# EAGLE library part ATF150X100 (library atmel-cpld)
ATF150x in 100 pin package.
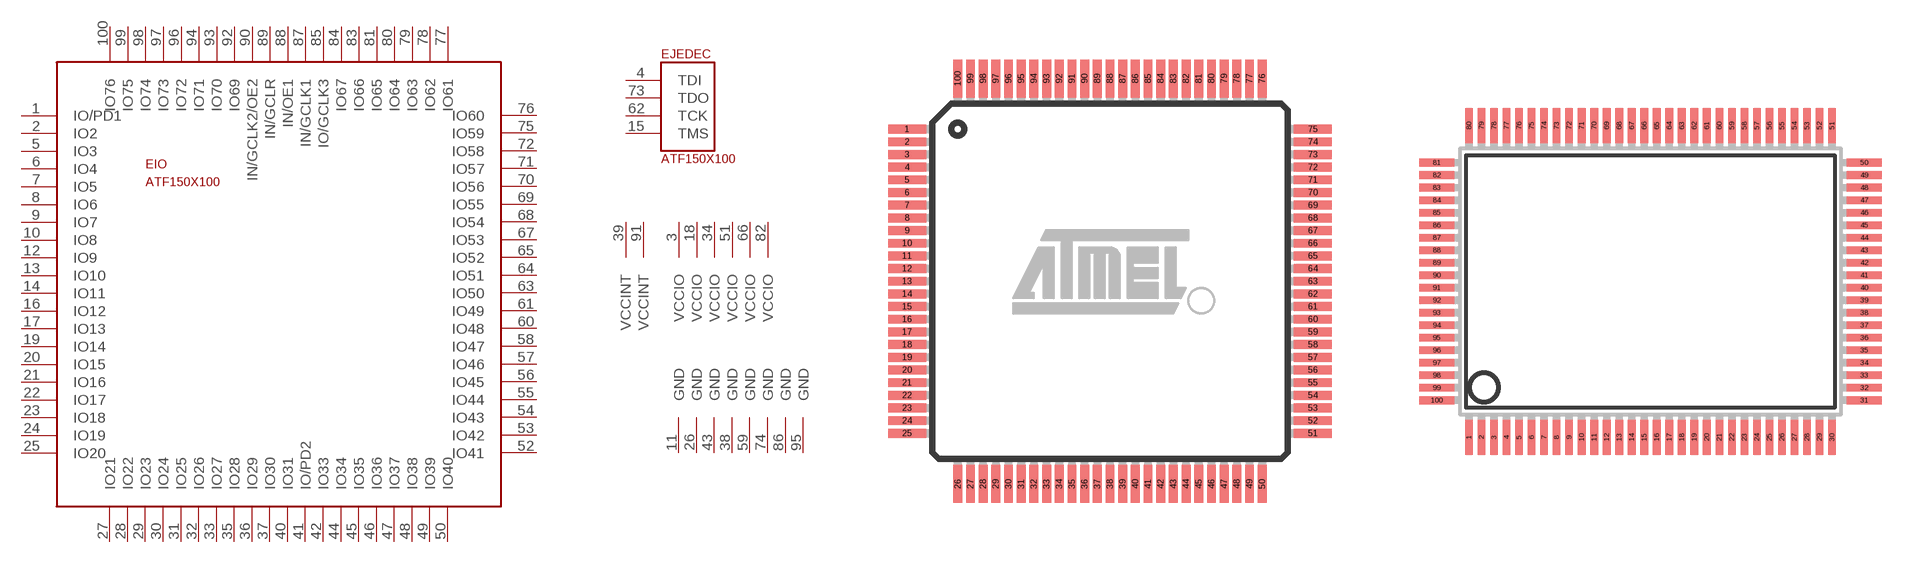
[diagram p1: symbol with the pads of TQFP-100; footprints TQFP-100, PQFP-100]

Designator prefix E; gates JEDEC=JTAG G$3=PVCCINT G$4=PVCCINT G$5=PVCCIO G$6=PVCCIO G$7=PVCCIO G$8=PVCCIO G$9=PVCCIO G$10=PGND G$11=PGND G$12=PGND G$13=PGND G$14=PGND G$1=PVCCIO IO=AT1508-100 G$15=PGND G$16=PGND G$17=PGND

## ATF150X100TQFP  [TQFP-100]
1  IO:IO/PD1
2  IO:IO2
3  G$5:VCCIO  pwr
4  JEDEC:TDI
5  IO:IO3
6  IO:IO4
7  IO:IO5
8  IO:IO6
9  IO:IO7
10  IO:IO8
11  G$10:GND  pwr
12  IO:IO9
13  IO:IO10
14  IO:IO11
15  JEDEC:TMS
16  IO:IO12
17  IO:IO13
18  G$6:VCCIO  pwr
19  IO:IO14
20  IO:IO15
21  IO:IO16
22  IO:IO17
23  IO:IO18
24  IO:IO19
25  IO:IO20
26  G$11:GND  pwr
27  IO:IO21
28  IO:IO22
29  IO:IO23
30  IO:IO24
31  IO:IO25
32  IO:IO26
33  IO:IO27
34  G$7:VCCIO  pwr
35  IO:IO28
36  IO:IO29
37  IO:IO30
38  G$12:GND  pwr
39  G$3:VCCINT  pwr
40  IO:IO31
41  IO:IO/PD2
42  IO:IO33
43  G$13:GND  pwr
44  IO:IO34
45  IO:IO35
46  IO:IO36
47  IO:IO37
48  IO:IO38
49  IO:IO39
50  IO:IO40
51  G$8:VCCIO  pwr
52  IO:IO41
53  IO:IO42
54  IO:IO43
55  IO:IO44
56  IO:IO45
57  IO:IO46
58  IO:IO47
59  G$14:GND  pwr
60  IO:IO48
61  IO:IO49
62  JEDEC:TCK
63  IO:IO50
64  IO:IO51
65  IO:IO52
66  G$9:VCCIO  pwr
67  IO:IO53
68  IO:IO54
69  IO:IO55
70  IO:IO56
71  IO:IO57
72  IO:IO58
73  JEDEC:TDO
74  G$15:GND  pwr
75  IO:IO59
76  IO:IO60
77  IO:IO61
78  IO:IO62
79  IO:IO63
80  IO:IO64
81  IO:IO65
82  G$1:VCCIO  pwr
83  IO:IO66
84  IO:IO67
85  IO:IO/GCLK3
86  G$16:GND  pwr
87  IO:IN/GCLK1  in
88  IO:IN/OE1  in
89  IO:IN/GCLR  in
90  IO:IN/GCLK2/OE2  in
91  G$4:VCCINT  pwr
92  IO:IO69
93  IO:IO70
94  IO:IO71
95  G$17:GND  pwr
96  IO:IO72
97  IO:IO73
98  IO:IO74
99  IO:IO75
100  IO:IO76

## ATF150X100PQFP  [PQFP-100]
1  IO:IO75
2  IO:IO76
3  IO:IO/PD1
4  IO:IO2
5  G$1:VCCIO  pwr
6  JEDEC:TDI
7  IO:IO3
8  IO:IO4
9  IO:IO5
10  IO:IO6
11  IO:IO7
12  IO:IO8
13  G$10:GND  pwr
14  IO:IO9
15  IO:IO10
16  IO:IO11
17  JEDEC:TMS
18  IO:IO12
19  IO:IO13
20  G$5:VCCIO  pwr
21  IO:IO14
22  IO:IO15
23  IO:IO16
24  IO:IO17
25  IO:IO18
26  IO:IO19
27  IO:IO20
28  G$11:GND  pwr
29  IO:IO21
30  IO:IO22
31  IO:IO23
32  IO:IO24
33  IO:IO25
34  IO:IO26
35  IO:IO27
36  G$6:VCCIO  pwr
37  IO:IO28
38  IO:IO29
39  IO:IO30
40  G$12:GND  pwr
41  G$3:VCCINT  pwr
42  IO:IO31
43  IO:IO/PD2
44  IO:IO33
45  G$13:GND  pwr
46  IO:IO34
47  IO:IO35
48  IO:IO36
49  IO:IO37
50  IO:IO38
51  IO:IO39
52  IO:IO40
53  G$7:VCCIO  pwr
54  IO:IO41
55  IO:IO42
56  IO:IO43
57  IO:IO44
58  IO:IO45
59  IO:IO46
60  IO:IO47
61  G$14:GND  pwr
62  IO:IO48
63  IO:IO49
64  JEDEC:TCK
65  IO:IO50
66  IO:IO51
67  IO:IO52
68  G$8:VCCIO  pwr
69  IO:IO53
70  IO:IO54
71  IO:IO55
72  IO:IO56
73  IO:IO57
74  IO:IO58
75  JEDEC:TDO
76  G$15:GND  pwr
77  IO:IO59
78  IO:IO60
79  IO:IO61
80  IO:IO62
81  IO:IO63
82  IO:IO64
83  IO:IO65
84  G$9:VCCIO  pwr
85  IO:IO66
86  IO:IO67
87  IO:IO/GCLK3
88  G$16:GND  pwr
89  IO:IN/GCLK1  in
90  IO:IN/OE1  in
91  IO:IN/GCLR  in
92  IO:IN/GCLK2/OE2  in
93  G$4:VCCINT  pwr
94  IO:IO69
95  IO:IO70
96  IO:IO71
97  G$17:GND  pwr
98  IO:IO72
99  IO:IO73
100  IO:IO74

## ATF150X100TH  [TH-100]
Pads as for PQFP-100

## ATF150X100X  [TH100B]
1  IO:IO75
2  IO:IO76
3  IO:IO/PD1
4  IO:IO2
5  G$1:VCCIO  pwr
6  JEDEC:TDI
7  IO:IO3
8  IO:IO4
9  IO:IO5
10  IO:IO6
11  IO:IO7
12  IO:IO8
13  G$10:GND  pwr
14  IO:IO9
15  IO:IO10
16  IO:IO11
17  JEDEC:TMS
18  IO:IO12
19  IO:IO13
20  G$5:VCCIO  pwr
21  IO:IO14
22  IO:IO15
23  IO:IO16
24  IO:IO17
25  IO:IO18
26  IO:IO19
27  IO:IO20
28  G$11:GND  pwr
29  IO:IO21
30  IO:IO22
31  IO:IO23
32  IO:IO24
33  IO:IO25
34  IO:IO26
35  IO:IO27
36  G$6:VCCIO  pwr
37  IO:IO28
38  IO:IO29
39  IO:IO30
40  G$12:GND  pwr
41  G$3:VCCINT  pwr
42  IO:IO31
43  IO:IO/PD2
44  IO:IO33
45  G$13:GND  pwr
46  IO:IO34
47  IO:IO35
48  IO:IO36
49  IO:IO37
50  IO:IO38
51  IO:IO39
52  IO:IO40
53  G$7:VCCIO  pwr
54  IO:IO41
55  IO:IO42
56  IO:IO43
57  IO:IO44
58  IO:IO45
59  IO:IO46
60  IO:IO47
61  G$14:GND  pwr
62  IO:IO48
63  IO:IO49
64  JEDEC:TCK
65  IO:IO50
66  IO:IO51
67  IO:IO52
68  G$8:VCCIO  pwr
69  IO:IO53
70  IO:IO54
71  IO:IO55
72  IO:IO56
73  IO:IO57
74  IO:IO58
75  JEDEC:TDO
76  G$15:GND  pwr
77  IO:IO59
78  IO:IO60
79  IO:IO61
80  IO:IO62
81  IO:IO63
82  IO:IO64
83  IO:IO65
84  G$9:VCCIO  pwr
85  IO:IO66
86  IO:IO67
87  IO:IO/GCLK3
88  G$16:GND  pwr
89  IO:IN/GCLK1  in
90  IO:IN/OE1  in
91  IO:IN/GCLR  in
92  IO:IN/GCLK2/OE2  in
93  G$4:VCCINT  pwr
94  IO:IO69
95  IO:IO70
96  IO:IO71
97  G$17:GND  pwr
98  IO:IO72
99  IO:IO73
100  IO:IO74
P$23  G$3:VCCINT  pwr
P$24  G$13:GND  pwr
P$25  G$4:VCCINT  pwr
P$26  G$17:GND  pwr
P$27  G$5:VCCIO  pwr
P$28  G$10:GND  pwr
P$29  G$8:VCCIO  pwr
P$30  G$14:GND  pwr
VCCIO@1  G$7:VCCIO  pwr
VCCIO@2  G$6:VCCIO  pwr

## Footprint TQFP-100 (pad centres in mm)
100-lead Thin Quad Flat Pack Package Outline
smd 1.5 x 0.35: 1 -8,6; 2 -8,5.5; 3 -8,5; 4 -8,4.5; 5 -8,4; 6 -8,3.5; 7 -8,3; 8 -8,2.5; 9 -8,2; 10 -8,1.5; 11 -8,1; 12 -8,0.5; 13 -8,0; 14 -8,-0.5; 15 -8,-1; 16 -8,-1.5; 17 -8,-2; 18 -8,-2.5; 19 -8,-3; 20 -8,-3.5; 21 -8,-4; 22 -8,-4.5; 23 -8,-5; 24 -8,-5.5; 25 -8,-6; 51 8,-6; 52 8,-5.5; 53 8,-5; 54 8,-4.5; 55 8,-4; 56 8,-3.5; 57 8,-3; 58 8,-2.5; 59 8,-2; 60 8,-1.5; 61 8,-1; 62 8,-0.5; 63 8,0; 64 8,0.5; 65 8,1; 66 8,1.5; 67 8,2; 68 8,2.5; 69 8,3; 70 8,3.5; 71 8,4; 72 8,4.5; 73 8,5; 74 8,5.5; 75 8,6
smd 0.35 x 1.5: 26 -6,-8; 27 -5.5,-8; 28 -5,-8; 29 -4.5,-8; 30 -4,-8; 31 -3.5,-8; 32 -3,-8; 33 -2.5,-8; 34 -2,-8; 35 -1.5,-8; 36 -1,-8; 37 -0.5,-8; 38 0,-8; 39 0.5,-8; 40 1,-8; 41 1.5,-8; 42 2,-8; 43 2.5,-8; 44 3,-8; 45 3.5,-8; 46 4,-8; 47 4.5,-8; 48 5,-8; 49 5.5,-8; 50 6,-8; 76 6,8; 77 5.5,8; 78 5,8; 79 4.5,8; 80 4,8; 81 3.5,8; 82 3,8; 83 2.5,8; 84 2,8; 85 1.5,8; 86 1,8; 87 0.5,8; 88 0,8; 89 -0.5,8; 90 -1,8; 91 -1.5,8; 92 -2,8; 93 -2.5,8; 94 -3,8; 95 -3.5,8; 96 -4,8; 97 -4.5,8; 98 -5,8; 99 -5.5,8; 100 -6,8

## Footprint PQFP-100 (pad centres in mm)
PQFP100 Quad flat pack 14mm x 20mm
smd 0.4 x 1.8: 1 -9.425,-8.1; 2 -8.775,-8.1; 3 -8.125,-8.1; 4 -7.475,-8.1; 5 -6.825,-8.1; 6 -6.175,-8.1; 7 -5.525,-8.1; 8 -4.875,-8.1; 9 -4.225,-8.1; 10 -3.575,-8.1; 11 -2.925,-8.1; 12 -2.275,-8.1; 13 -1.625,-8.1; 14 -0.975,-8.1; 15 -0.325,-8.1; 16 0.325,-8.1; 17 0.975,-8.1; 18 1.625,-8.1; 19 2.275,-8.1; 20 2.925,-8.1; 21 3.575,-8.1; 22 4.225,-8.1; 23 4.875,-8.1; 24 5.525,-8.1; 25 6.175,-8.1; 26 6.825,-8.1; 27 7.475,-8.1; 28 8.125,-8.1; 29 8.775,-8.1; 30 9.425,-8.1; 51 9.425,8.1; 52 8.775,8.1; 53 8.125,8.1; 54 7.475,8.1; 55 6.825,8.1; 56 6.175,8.1; 57 5.525,8.1; 58 4.875,8.1; 59 4.225,8.1; 60 3.575,8.1; 61 2.925,8.1; 62 2.275,8.1; 63 1.625,8.1; 64 0.975,8.1; 65 0.325,8.1; 66 -0.325,8.1; 67 -0.975,8.1; 68 -1.625,8.1; 69 -2.275,8.1; 70 -2.925,8.1; 71 -3.575,8.1; 72 -4.225,8.1; 73 -4.875,8.1; 74 -5.525,8.1; 75 -6.175,8.1; 76 -6.825,8.1; 77 -7.475,8.1; 78 -8.125,8.1; 79 -8.775,8.1; 80 -9.425,8.1
smd 1.8 x 0.4: 31 11.1,-6.175; 32 11.1,-5.525; 33 11.1,-4.875; 34 11.1,-4.225; 35 11.1,-3.575; 36 11.1,-2.925; 37 11.1,-2.275; 38 11.1,-1.625; 39 11.1,-0.975; 40 11.1,-0.325; 41 11.1,0.325; 42 11.1,0.975; 43 11.1,1.625; 44 11.1,2.275; 45 11.1,2.925; 46 11.1,3.575; 47 11.1,4.225; 48 11.1,4.875; 49 11.1,5.525; 50 11.1,6.175; 81 -11.1,6.175; 82 -11.1,5.525; 83 -11.1,4.875; 84 -11.1,4.225; 85 -11.1,3.575; 86 -11.1,2.925; 87 -11.1,2.275; 88 -11.1,1.625; 89 -11.1,0.975; 90 -11.1,0.325; 91 -11.1,-0.325; 92 -11.1,-0.975; 93 -11.1,-1.625; 94 -11.1,-2.275; 95 -11.1,-2.925; 96 -11.1,-3.575; 97 -11.1,-4.225; 98 -11.1,-4.875; 99 -11.1,-5.525; 100 -11.1,-6.175

## Footprint TH-100 (pad centres in mm)
Through-hole adapter mounted pqfp-100 part.
drill 0.9 octagon: 1 -17.78,-20.32; 2 -17.78,-22.86; 3 -15.24,-20.32; 4 -15.24,-22.86; 5 -12.7,-20.32; 6 -12.7,-22.86; 7 -10.16,-20.32; 8 -10.16,-22.86; 9 -7.62,-20.32; 10 -7.62,-22.86; 11 -5.08,-20.32; 12 -5.08,-22.86; 13 -2.54,-20.32; 14 -2.54,-22.86; 15 0,-20.32; 16 0,-22.86; 17 2.54,-20.32; 18 2.54,-22.86; 19 5.08,-20.32; 20 5.08,-22.86; 21 7.62,-20.32; 22 7.62,-22.86; 23 10.16,-20.32; 24 10.16,-22.86; 25 12.7,-20.32; 26 12.7,-22.86; 27 15.24,-20.32; 28 15.24,-22.86; 29 17.78,-20.32; 30 17.78,-22.86; 31 22.86,-10.16; 32 20.32,-10.16; 33 22.86,-7.62; 34 20.32,-7.62; 35 22.86,-5.08; 36 20.32,-5.08; 37 22.86,-2.54; 38 20.32,-2.54; 39 22.86,0; 40 20.32,0; 41 22.86,2.54; 42 20.32,2.54; 43 22.86,5.08; 44 20.32,5.08; 45 22.86,7.62; 46 20.32,7.62; 47 22.86,10.16; 48 20.32,10.16; 49 22.86,12.7; 50 20.32,12.7; 51 17.78,22.86; 52 17.78,20.32; 53 15.24,22.86; 54 15.24,20.32; 55 12.7,22.86; 56 12.7,20.32; 57 10.16,22.86; 58 10.16,20.32; 59 7.62,22.86; 60 7.62,20.32; 61 5.08,22.86; 62 5.08,20.32; 63 2.54,22.86; 64 2.54,20.32; 65 0,22.86; 66 0,20.32; 67 -2.54,22.86; 68 -2.54,20.32; 69 -5.08,22.86; 70 -5.08,20.32; 71 -7.62,22.86; 72 -7.62,20.32; 73 -10.16,22.86; 74 -10.16,20.32; 75 -12.7,22.86; 76 -12.7,20.32; 77 -15.24,22.86; 78 -15.24,20.32; 79 -17.78,22.86; 80 -17.78,20.32; 81 -20.32,12.7; 82 -22.86,12.7; 83 -20.32,10.16; 84 -22.86,10.16; 85 -20.32,7.62; 86 -22.86,7.62; 87 -20.32,5.08; 88 -22.86,5.08; 89 -20.32,2.54; 90 -22.86,2.54; 91 -20.32,0; 92 -22.86,0; 93 -20.32,-2.54; 94 -22.86,-2.54; 95 -20.32,-5.08; 96 -22.86,-5.08; 97 -20.32,-7.62; 98 -22.86,-7.62; 99 -20.32,-10.16; 100 -22.86,-10.16; P$1 -22.86,15.24; P$2 -20.32,15.24; P$3 -20.32,17.78; P$4 -22.86,17.78; P$5 -20.32,20.32; P$6 -22.86,20.32; P$7 -22.86,22.86; P$8 -20.32,22.86; P$9 20.32,15.24; P$10 22.86,15.24; P$11 20.32,17.78; P$12 22.86,17.78; P$13 20.32,20.32; P$14 22.86,20.32; P$15 20.32,22.86; P$16 22.86,22.86; P$17 20.32,-17.78; P$18 22.86,-17.78; P$19 20.32,-15.24; P$20 22.86,-15.24; P$21 20.32,-12.7; P$22 22.86,-12.7; P$31 20.32,-22.86; P$32 22.86,-22.86; P$33 22.86,-20.32; P$34 20.32,-20.32; P$35 -20.32,-22.86; P$36 -20.32,-20.32; P$37 -22.86,-20.32; P$38 -22.86,-22.86; P$39 -22.86,-17.78; P$40 -20.32,-17.78; P$41 -22.86,-15.24; P$42 -20.32,-15.24; P$43 -22.86,-12.7; P$44 -20.32,-12.7

## Footprint TH100B (pad centres in mm)
Experimental 100 pin PQFP "pachage".
drill 0.9 octagon: 1 -17.78,-20.32; 2 -17.78,-22.86; 3 -15.24,-20.32; 4 -15.24,-22.86; 5 -12.7,-20.32; 6 -12.7,-22.86; 7 -10.16,-20.32; 8 -10.16,-22.86; 9 -7.62,-20.32; 10 -7.62,-22.86; 11 -5.08,-20.32; 12 -5.08,-22.86; 13 -2.54,-20.32; 14 -2.54,-22.86; 15 0,-20.32; 16 0,-22.86; 17 2.54,-20.32; 18 2.54,-22.86; 19 5.08,-20.32; 20 5.08,-22.86; 21 7.62,-20.32; 22 7.62,-22.86; 23 10.16,-20.32; 24 10.16,-22.86; 25 12.7,-20.32; 26 12.7,-22.86; 27 15.24,-20.32; 28 15.24,-22.86; 29 17.78,-20.32; 30 17.78,-22.86; 31 22.86,-10.16; 32 20.32,-10.16; 33 22.86,-7.62; 34 20.32,-7.62; 35 22.86,-5.08; 36 20.32,-5.08; 37 22.86,-2.54; 38 20.32,-2.54; 39 22.86,0; 40 20.32,0; 41 22.86,2.54; 42 20.32,2.54; 43 22.86,5.08; 44 20.32,5.08; 45 22.86,7.62; 46 20.32,7.62; 47 22.86,10.16; 48 20.32,10.16; 49 22.86,12.7; 50 20.32,12.7; 51 17.78,22.86; 52 17.78,20.32; 53 15.24,22.86; 54 15.24,20.32; 55 12.7,22.86; 56 12.7,20.32; 57 10.16,22.86; 58 10.16,20.32; 59 7.62,22.86; 60 7.62,20.32; 61 5.08,22.86; 62 5.08,20.32; 63 2.54,22.86; 64 2.54,20.32; 65 0,22.86; 66 0,20.32; 67 -2.54,22.86; 68 -2.54,20.32; 69 -5.08,22.86; 70 -5.08,20.32; 71 -7.62,22.86; 72 -7.62,20.32; 73 -10.16,22.86; 74 -10.16,20.32; 75 -12.7,22.86; 76 -12.7,20.32; 77 -15.24,22.86; 78 -15.24,20.32; 79 -17.78,22.86; 80 -17.78,20.32; 81 -20.32,12.7; 82 -22.86,12.7; 83 -20.32,10.16; 84 -22.86,10.16; 85 -20.32,7.62; 86 -22.86,7.62; 87 -20.32,5.08; 88 -22.86,5.08; 89 -20.32,2.54; 90 -22.86,2.54; 91 -20.32,0; 92 -22.86,0; 93 -20.32,-2.54; 94 -22.86,-2.54; 95 -20.32,-5.08; 96 -22.86,-5.08; 97 -20.32,-7.62; 98 -22.86,-7.62; 99 -20.32,-10.16; 100 -22.86,-10.16; P$1 -22.86,15.24; P$2 -20.32,15.24; P$3 -20.32,17.78; P$4 -22.86,17.78; P$5 -20.32,20.32; P$6 -22.86,20.32; P$7 -22.86,22.86; P$8 -20.32,22.86; P$9 20.32,15.24; P$10 22.86,15.24; P$11 20.32,17.78; P$12 22.86,17.78; P$13 20.32,20.32; P$14 22.86,20.32; P$15 20.32,22.86; P$16 22.86,22.86; P$17 20.32,-17.78; P$18 22.86,-17.78; P$19 20.32,-15.24; P$20 22.86,-15.24; P$21 20.32,-12.7; P$22 22.86,-12.7; P$31 20.32,-22.86; P$32 22.86,-22.86; P$33 22.86,-20.32; P$34 20.32,-20.32; P$35 -20.32,-22.86; P$36 -20.32,-20.32; P$37 -22.86,-20.32; P$38 -22.86,-22.86; P$39 -22.86,-17.78; P$40 -20.32,-17.78; P$41 -22.86,-15.24; P$42 -20.32,-15.24; P$43 -22.86,-12.7; P$44 -20.32,-12.7
drill 0.813: P$23 17.556,0.488; P$24 17.394,6.665; P$25 -15.606,-2.113; P$26 -15.606,-8.453; P$27 4.714,-16.419; P$28 -1.626,-16.419; P$29 -1.463,14.143; P$30 5.039,13.98; VCCIO@1 3.81,3.81; VCCIO@2 3.81,-3.175